# Altium schematic symbol library Test_Point.SchLib: 1 symbol
Pins are listed as number, name and electrical type; pins without a type are passive.

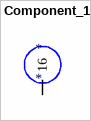
[diagram p0: symbol Component_1]

## Component_1
designator *  (no BOM)
footprint Test_Point
pins: TP1 16